# EAGLE library part 74LS30N (library EW_IC_74_Logic)
8 input NAND. Category: Gates Manufacturer: Generic
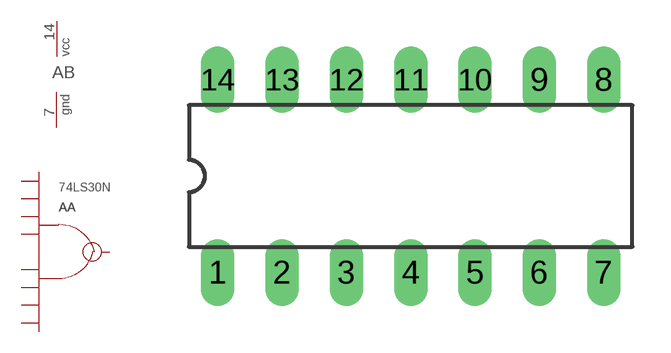
[diagram p227: symbol with the pads of DIL14; footprint DIL14]

Designator prefix A; gates A=NAND_8 B=PWRN

## 74LS30N  [DIL14]
1  A:A  pwr
2  A:B  pwr
3  A:C  pwr
4  A:D  pwr
5  A:E  pwr
6  A:F  pwr
7  B:GND  pwr
8  A:Y  pwr
11  A:G  pwr
12  A:H  pwr
14  B:VCC  pwr

## Footprint DIL14 (pad centres in mm)
SOCKET Dual In Line
drill 0.813 long: 1 -7.62,-3.81; 2 -5.08,-3.81; 3 -2.54,-3.81; 4 0,-3.81; 5 2.54,-3.81; 6 5.08,-3.81; 7 7.62,-3.81; 8 7.62,3.81; 9 5.08,3.81; 10 2.54,3.81; 11 0,3.81; 12 -2.54,3.81; 13 -5.08,3.81; 14 -7.62,3.81